# Altium footprint library mechanic.PcbLib: 4 footprints
Each footprint in its own frame and in the unit in brackets; x right, y up, seen from the top. Pads: shape width x height; smd on the part's side, far side on the other; paste and mask are expansions set on the pad; w line width, h text height; cw(c..) or ccw(c..) is an arc to the next point about the centre after c.
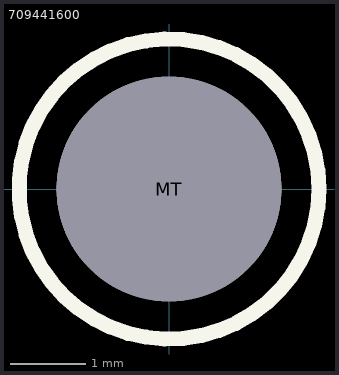
[diagram p0: the footprints below, top view; thin cyan lines are the x and y axes]

## 17W08090 [mm]
3D body: height 1.5, standoff 0, extent -10.3,-10.3 10.3,10.3

## 709441600 [mm]
pads (1):
  round 3 hole 3 unplated: MT(0,0)
Top Overlay:
  circle w0.2: c0,0 r2
  circle w0.2: c0,0 r2

## ER32/6/25 [mm]
height 12
3D body "ER32-6-25.STEP": height 5.15, standoff -0.85, extent -16.05,-12.7 16.05,12.7

## SP-0006-002 [mm]
3D body: height 1, standoff 0, extent -8.5,-35 8.5,35